# EAGLE library part BOTTON-COLOR-6P-COLOR (library Discrete)
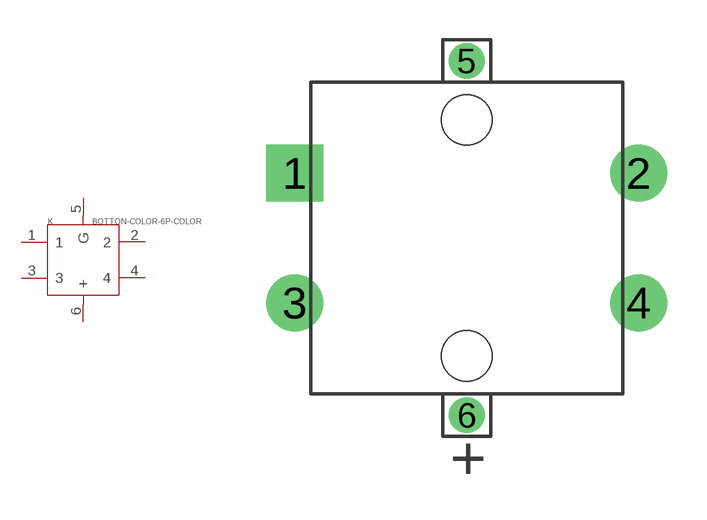
[diagram p13: symbol with the pads of 6P-11.8X11.8; footprint 6P-11.8X11.8]

Designator prefix K

## BOTTON-COLOR-6P-COLOR  [6P-11.8X11.8]
1  1
2  2
3  3
4  4
5  G
6  +

## Footprint 6P-11.8X11.8 (pad centres in mm)
drill 1.3 pad 2.15 square: 1 -6.5,2.45
drill 1.3 pad 2.15 round: 2 6.5,2.45; 3 -6.5,-2.45; 4 6.5,-2.45
drill 0.8 pad 1.35 round: 5 0,6.7; 6 0,-6.7
hole 1.9 at 0,4.46
hole 1.9 at 0,-4.46